# EAGLE library part JTAG-CORTEX (library microbuilder)
Serial Wire (SW-DP) Connector Standard 0.05" 10-pin connector is for use with the Cortex M and Cortex A SWD (serial wire debugger) interface (SW-DP) Connectors 2x05_1.27MM_SMT - Inexpensive surface-mount header with bare pins, compatible with standard 10-pin SWD cables (4UCON: 16846) 2x05_1.27MM_BOX_NOPOSTS - Polarised surface-mount box (4UCON with caps: 19735, without caps: 15117 2x05_1.27MM_BOX_POSTS - Polarised surface-mount box with mounting holes (4UCON: 20317) Pinout: http://infocenter.arm.com/help/topic/com.arm.doc.faqs/attached/13634/cortex_debug_connectors.pdf http://www.keil.com/peripherals/coresight/connectors.asp
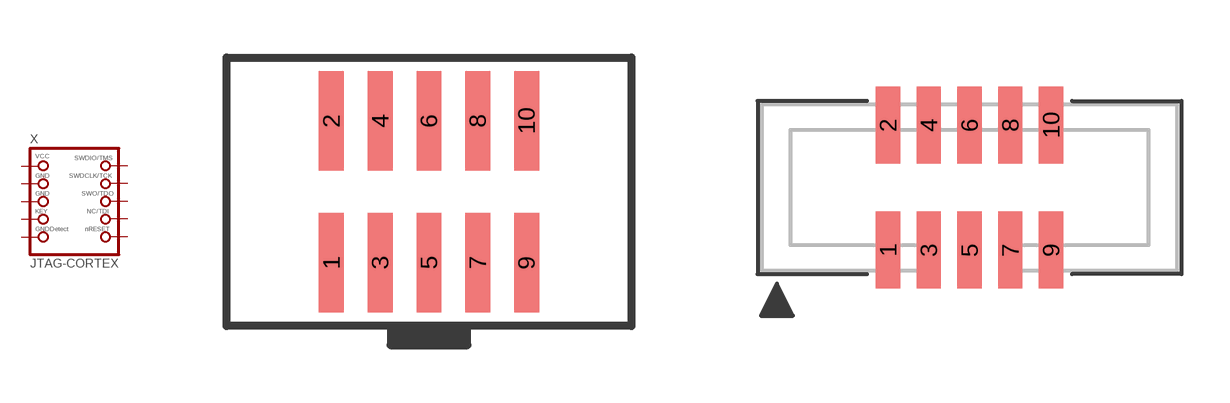
[diagram p2: symbol with the pads of 2X05_1.27MM_SMT; footprints 2X05_1.27MM_SMT, 2X05_1.27MM_BOX_NOPOSTS]

Designator prefix X

## JTAG-CORTEX  [2X05_1.27MM_SMT]
1  VCC  pwr
2  SWDIO
3  GND  pwr
4  SWDCLK
5  GND  pwr
6  SWO
7  KEY
8  TDI
9  GNDDETECT
10  NRESET

## JTAG-CORTEXBOX  [2X05_1.27MM_BOX_NOPOSTS]
Pads as for 2X05_1.27MM_SMT

## JTAG-CORTEXBOXPOSTS  [2X05_1.27MM_BOX_POSTS]
Pads as for 2X05_1.27MM_SMT

## Footprint 2X05_1.27MM_SMT (pad centres in mm)
2x05 1.27mm Headers SMT (2.0mm Height) 4UConnector: 16846
smd 0.65 x 2.6: 1 -2.54,-1.85; 2 -2.54,1.85; 3 -1.27,-1.85; 4 -1.27,1.85; 5 0,-1.85; 6 0,1.85; 7 1.27,-1.85; 8 1.27,1.85; 9 2.54,-1.85; 10 2.54,1.85

## Footprint 2X05_1.27MM_BOX_NOPOSTS (pad centres in mm)
4UCon: 19735 (with cap), 15117 (without caps)
smd 0.76 x 2.4: 1 -2.54,-1.95; 2 -2.54,1.95; 3 -1.27,-1.95; 4 -1.27,1.95; 5 0,-1.95; 6 0,1.95; 7 1.27,-1.95; 8 1.27,1.95; 9 2.54,-1.95; 10 2.54,1.95

## Footprint 2X05_1.27MM_BOX_POSTS (pad centres in mm)
4UCon: 20317
smd 0.76 x 2.6: 1 -2.54,-2.15; 2 -2.54,2.15; 3 -1.27,-2.15; 4 -1.27,2.15; 5 0,-2.15; 6 0,2.15; 7 1.27,-2.15; 8 1.27,2.15; 9 2.54,-2.15; 10 2.54,2.15
hole 1 at -1.905,0
hole 1 at 1.905,0